# EAGLE library part MPU9250_BREAKOUT (library MPU9250)
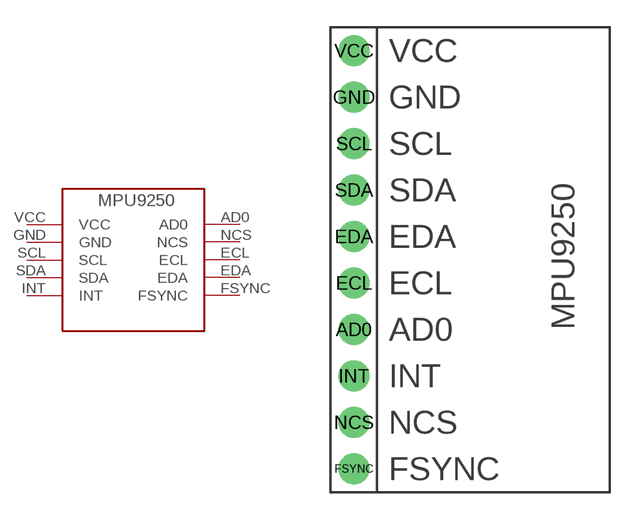
[diagram p0: symbol with the pads of MPU9250_BREAKOUT; footprint MPU9250_BREAKOUT]

Designator prefix -

## MPU9250_BREAKOUT  [MPU9250_BREAKOUT]
AD0  AD0
ECL  ECL
EDA  EDA
FSYNC  FSYNC
GND  GND
INT  INT
NCS  NCS
SCL  SCL
SDA  SDA
VCC  VCC

## Footprint MPU9250_BREAKOUT (pad centres in mm)
drill 1 pad 1.676: AD0 -6.35,-3.81; ECL -6.35,-1.27; EDA -6.35,1.27; FSYNC -6.35,-11.43; GND -6.35,8.89; INT -6.35,-6.35; NCS -6.35,-8.89; SCL -6.35,6.35; SDA -6.35,3.81; VCC -6.35,11.43